# Altium integrated library lib-Connectors.IntLib: 21 symbols
Pins are listed as number, name and electrical type; pins without a type are passive.

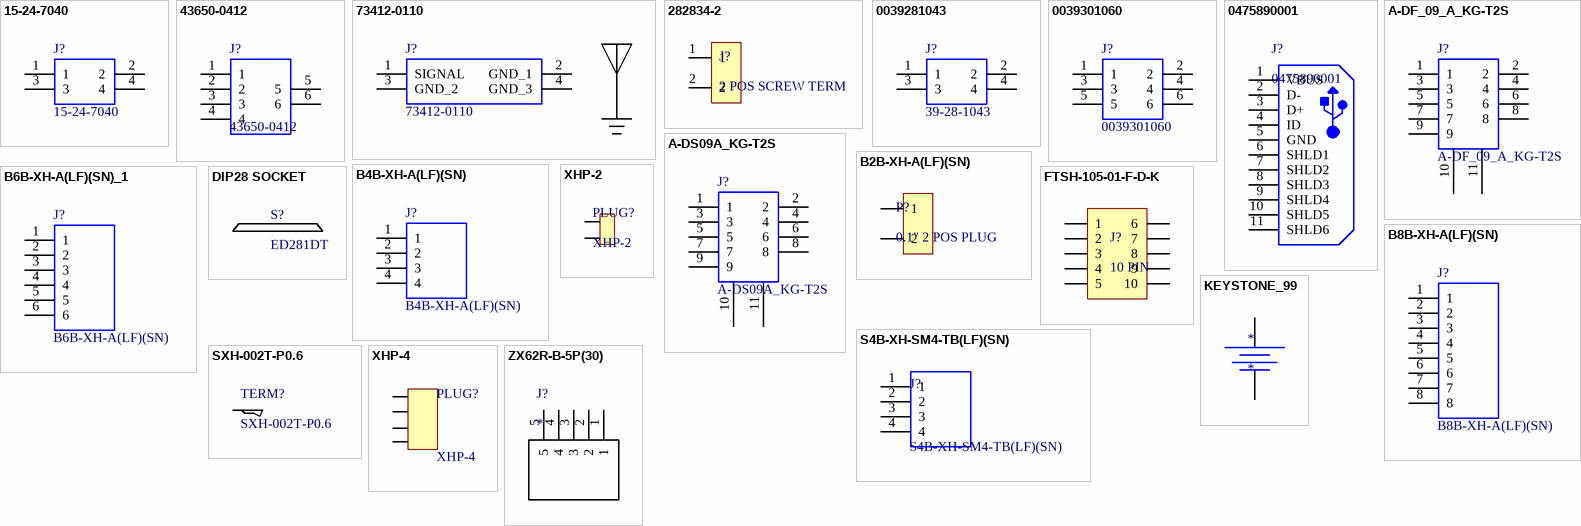
[diagram p0: symbols 15-24-7040 to ZX62R-B-5P(30)]

## 15-24-7040
designator J?
MiniFit BMI Vt Rcpt Rcpt Hdr Brass 4Ckt; Manufacturer 1: Molex; Allied_Number: 70769815; Geometry.Height: 11mm; Manufacturer Part Number 1: 15-24-3048; RS Part Number: *; RS Price/Stock: *; Allied Price/Stock: https://www.alliedelec.com/molex-incorporated-15-24-3048/70769815/; Arrow Part Number: 15-24-3048; Arrow Price/Stock: *; Datasheet Link: https://www.molex.com/webdocs/datasheets/pdf/en-us/0015243048_PCB_RECEPTACLES.pdf; Parameter 1: *
footprint 15243048
pins: 1, 2, 3, 4

## 43650-0412
designator J?
Molex MICRO-FIT 3.0 43650, 3mm Pitch, 4 Way, 1 Row, Right Angle PCB Header, Surface Mount; Allied_Number: 70266901; Geometry.Height: 5mm; Manufacturer 1: Molex; Manufacturer Part Number 1: 43650-0412; RS Part Number: 4476833P; RS Price/Stock: http://uk.rs-online.com/web/p/products/4476833P; Allied Price/Stock: https://www.alliedelec.com/molex-incorporated-43650-0412/70266901/; Mouser Part Number: 538-43650-0412; Mouser Price/Stock: https://www.mouser.com/Search/Refine.aspx?Keyword=538-43650-0412; Datasheet Link: https://www.molex.com/pdm_docs/sd/436500412_sd.pdf
footprint 436500412
pins: 1, 2, 3, 4, 5, 6

## 73412-0110
designator J?
50 Ohms, MCRF, PCB Vertical Jack Receptacle, SMT, 1.25mm Mounted Height; Manufacturer 1: Molex; Allied_Number: 70357960; Manufacturer Part Number 1: 73412-0110; RS Part Number: 1676350; RS Price/Stock: http://uk.rs-online.com/web/p/products/1676350; Allied Price/Stock: https://www.alliedelec.com/molex-incorporated-73412-0110/70357960/; Mouser Part Number: 538-73412-0110; Mouser Price/Stock: https://www.mouser.com/Search/Refine.aspx?Keyword=538-73412-0110; Datasheet Link: http://www.molex.com/pdm_docs/sd/734120110_sd.pdf; ComponentLink1Description: Datasheet; ComponentLink1URL: http://www.molex.com/pdm_docs/sd/734120110_sd.pdf; Supplier 1: Digi-Key; Supplier Part Number 1: WM5587CT-ND
footprint 73412-0110
pins: 1 SIGNAL, 2 GND_1, 3 GND_2, 4 GND_3

## 282834-2
designator J?, comment 2 POS SCREW TERM
2 Position Screw terminal, through hole, 0.1" pitch; Manufacturer Part Number 1: 282834-2; Manufacturer 1: TE Connectivity; Supplier Part Number 1: A98333-ND; Supplier 1: Digikey
footprint 282834-2
pins: 1, 2

## 0039281043
designator J?, comment 39-28-1043
Mini-Fit Jr. Vertical Header, 4.20mm Pitch, Dual Row, 4 Circuits, without Snap-in Plastic Peg PCB Lock, Tin, Natural; Manufacturer 1: Molex; Manufacturer Part Number 1: 0039281043; Geometry.Height: 13.1mm; RS Part Number: *; RS Price/Stock: *; Arrow Part Number: 0039281043; Arrow Price/Stock: https://www.arrow.com/en/products/0039281043/molex; Datasheet Link: http://www.molex.com/webdocs/datasheets/pdf/en-us//0039281043_PCB_HEADERS.pdf
footprint SHDR4W125P550X420_2X2_960X960X1310P
pins: 1, 2, 3, 4

## 0039301060
designator J?
Headers & Wire Housings MINI-FIT JR HDR 06P RA 94V-2; Manufacturer 1: Molex; Manufacturer Part Number 1: 0039301060; RS Part Number: *; RS Price/Stock: *; Arrow Part Number: 0039301060; Arrow Price/Stock: https://www.arrow.com/en/products/0039301060/molex; Datasheet Link: https://www.molex.com/pdm_docs/sd/039301060_sd.pdf
footprint 39-30-1060_1
pins: 1, 2, 3, 4, 5, 6

## 0475890001
designator J?
MOLEX USB; Manufacturer 1: Molex; Manufacturer Part Number 1: 0475890001
footprint MOLX-47589-0001_V (SMD, 5-Leads, Body 7.5x5.6mm, Pitch 0.65mm)
pins: 1 VBUS, 2 D-, 3 D+, 4 ID, 5 GND, 6 SHLD1, 7 SHLD2, 8 SHLD3, 9 SHLD4, 10 SHLD5, 11 SHLD6

## A-DF_09_A_KG-T2S
designator J?
DSub connector - R/A Shrouded, Hex Stand-off, Female 9 pin; Manufacturer 1: ASSMANN WSW components GmbH; Manufacturer Part Number 1: A-DF 09 A/KG-T2S; RS Part Number: *; RS Price/Stock: *; Arrow Part Number: A-DF 09 A/KG-T2S; Arrow Price/Stock: https://www.arrow.com/en/products/a-df09akg-t2s/assmann-wsw-components-inc; Datasheet Link: http://assmann.us/specs/A-DF-xx-A_KG-T2x.pdf
footprint A-DF-09-AKG-T2S_1
pins: 1, 2, 3, 4, 5, 6, 7, 8, 9, 10, 11

## A-DS09A_KG-T2S
designator J?
9 Position D-Sub Plug, Male Pins Connector; Manufacture 1: ASSMANN WSW components GmbH; Manufacturer Part Number 1: A-DS09A/KG-T2S; RS Part Number: *; RS Price/Stock: *; Arrow Part Number: A-DS09A/KG-T2S; Arrow Price/Stock: *; Datasheet Link: http://www.assmann-wsw.com/fileadmin/datasheets/ASS_4888_CO.pdf
footprint A-DS09AKG-T2S_1
pins: 1, 2, 3, 4, 5, 6, 7, 8, 9, 10, 11

## B2B-XH-A(LF)(SN)
designator P?, comment 0.1" 2 POS PLUG
JST 2-Pos 0.1" Pitch Plug; Manufacturer Part Number 1: B2B-XH-A(LF)(SN); Manufacturer 1: JST; Supplier 1: Digikey; Supplier Part Number 1: 455-2247-ND
footprint B2B-XH-A(LF)(SN)
pins: 1, 2

## B4B-XH-A(LF)(SN)
designator J?
XH-2.5mm Header top entry 4 way JST XH Series, Series Number B4B, 2.5mm Pitch 4 Way 1 Row Straight PCB Header, Solder Termination, 3A; Geometry.Height: 7mm; Manufacturer_Name: JST; Manufacturer_Part_Number: B4B-XH-A(LF)(SN); RS Part Number: 1724913; RS Price/Stock: http://uk.rs-online.com/web/p/products/1724913; Arrow Part Number: B4B-XH-A(LF)(SN); Arrow Price/Stock: https://www.arrow.com/en/products/b4b-xh-a-lf-sn/jst-manufacturing; Datasheet Link: http://uk.rs-online.com/web/p/products/8201551
footprint SHDR4W64P0X250_1X4_1240X575X700P
pins: 1, 2, 3, 4

## B6B-XH-A(LF)(SN)_1
designator J?, comment B6B-XH-A(LF)(SN)
XH-2.5mm Header top entry 6 way JST XH Series, Series Number B4B, 2.5mm Pitch 4 Way 1 Row Straight PCB Header, Solder Termination, 3A; Geometry.Height: 7mm; Manufacturer_Name: JST; Manufacturer_Part_Number: B6B-XH-A(LF)(SN); RS Part Number: 1667255; RS Price/Stock: http://uk.rs-online.com/web/p/products/1667255; Arrow Part Number: B6B-XH-A(LF)(SN); Arrow Price/Stock: https://www.arrow.com/en/products/b6b-xh-a-lf-sn/jst-manufacturing; Datasheet Link: http://www.jst-mfg.com/product/pdf/eng/eXH.pdf
footprint SHDR6W64P0X250_1X6_1740X575X700P
pins: 1, 2, 3, 4, 5, 6

## B8B-XH-A(LF)(SN)
designator J?
XH-2.5mm Header top entry 8 way JST XH Series, Series Number B8B, 2.5mm Pitch 8 Way 1 Row Straight PCB Header, Solder Termination, 3A; Geometry.Height: 7mm; Manufacturer_Name: JST; Manufacturer_Part_Number: B8B-XH-A(LF)(SN); RS Part Number: 1724975; RS Price/Stock: http://uk.rs-online.com/web/p/products/1724975; Arrow Part Number: B8B-XH-A(LF)(SN); Arrow Price/Stock: https://www.arrow.com/en/products/b8b-xh-a-lf-sn/jst-manufacturing; Datasheet Link: http://docs-europe.electrocomponents.com/webdocs/1357/0900766b81357f2f.pdf
footprint HDRV8W64P0X250_1X8_2240X575X700P
pins: 1, 2, 3, 4, 5, 6, 7, 8

## DIP28 SOCKET
designator S?, comment ED281DT  (mechanical)
DIP 28 SOCKET; Supplier 1: Digi-Key; Supplier Part Number 1: ED3050-5-ND

## FTSH-105-01-F-D-K
designator J?, comment 10 PIN
10 Pin Programming Header; Manufacturer 1: Samtec Inc.; Manufacturer Part Number 1: FTSH-105-01-F-D-K; Supplier 1: Digikey; Supplier Part Number 1: SAM8909-ND
footprint FTSH-105-01-F-D-K
pins: 1, 2, 3, 4, 5, 6, 7, 8, 9, 10

## KEYSTONE_99
designator *
Manufacturer 1: Keystone Electronics; Manufacturer Part Number 1: 99; Supplier 1: Digikey; Supplier Part Number 1: 36-99-ND
footprint KEYSTONE_99
pins: 1 POS, 2 NEG

## S4B-XH-SM4-TB(LF)(SN)
designator J?
XH-2.5mm Header top entry 4 way JST XH Series, Series Number S4B, 2.5mm Pitch 4 Way 1 Row Straight PCB Header, Solder Termination, 3A; Manufacturer_Name: JST; Manufacturer_Part_Number: S4B-XH-SM4-TB(LF)(SN); RS Part Number: *; RS Price/Stock: *; Mouser Part Number: *; Mouser Price/Stock: *; Datasheet Link: http://www.jst-mfg.com/product/pdf/eng/eXH.pdf
footprint S4B-XH-SM4-TB
pins: 1, 2, 3, 4

## SXH-002T-P0.6
designator TERM?  (mechanical)
CONN TERM CRIMP XH 22-28AWG; Manufacturer_Name: JST; Manufacturer_Part_Number: SXH-001T-P0.6

## XHP-2
designator PLUG?  (mechanical)
JST 2-POS PLUG; Manufacturer_Name: JST; Manufacturer_Part_Number: XHP-2

## XHP-4
designator PLUG?  (mechanical)
JST 4-POS PLUG; Geometry.Height: 1.8mm; Manufacturer_Name: JST; Manufacturer_Part_Number: XHP-4; Datasheet Link: http://www.jst-mfg.com/product/pdf/eng/eXH.pdf

## ZX62R-B-5P(30)
designator J?
HIROSE MICRO USB REVERSE; Manufacturer Part Number 1: ZX62R-B-5P(30); Datasheet Link: http://www.farnell.com/datasheets/2360818.pdf; Manufacturer 1: Hirose; Mouser Part Number: 798-ZX62R-B-5P30; Mouser Price/Stock: https://www.mouser.com/Search/Refine.aspx?Keyword=798-ZX62R-B-5P30; RS Part Number: 1362263; RS Price/Stock: http://uk.rs-online.com/web/p/products/1362263; Supplier 1: Digikey; Supplier Part Number 1: H125274CT-ND
footprint ZX62R-B-5P(30)
pins: 1, 2, 3, 4, 5